# Altium footprint library DFN-6-2x2.PcbLib: 1 footprints
Each footprint in its own frame and in the unit in brackets; x right, y up, seen from the top. Pads: shape width x height; smd on the part's side, far side on the other; paste and mask are expansions set on the pad; w line width, h text height; cw(c..) or ccw(c..) is an arc to the next point about the centre after c.
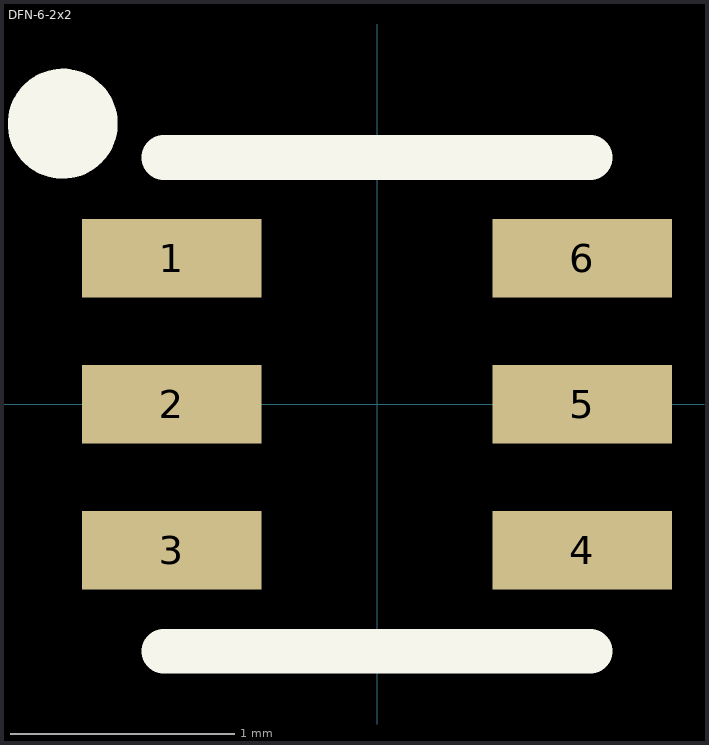
[diagram p0: the footprint, top view; thin cyan lines are the x and y axes]

## DFN-6-2x2 [mm]
pads (6):
  rect 0.8x0.35 smd mask+0.05: 1(-0.915,0.65) 2(-0.915,0) 3(-0.915,-0.65) 4(0.915,-0.65) 5(0.915,0) 6(0.915,0.65)
Top Overlay:
  circle w0.25: c-1.4,1.25 r0.12
  lines w0.2: -0.95,-1.1 0.95,-1.1 ; -0.95,1.1 0.95,1.1
3D body: height 0.75, standoff 0, extent -1,-1 1,1